# Altium schematic symbol library DANCE_LIB.SchLib: 34 symbols
Pins are listed as number, name and electrical type; pins without a type are passive.

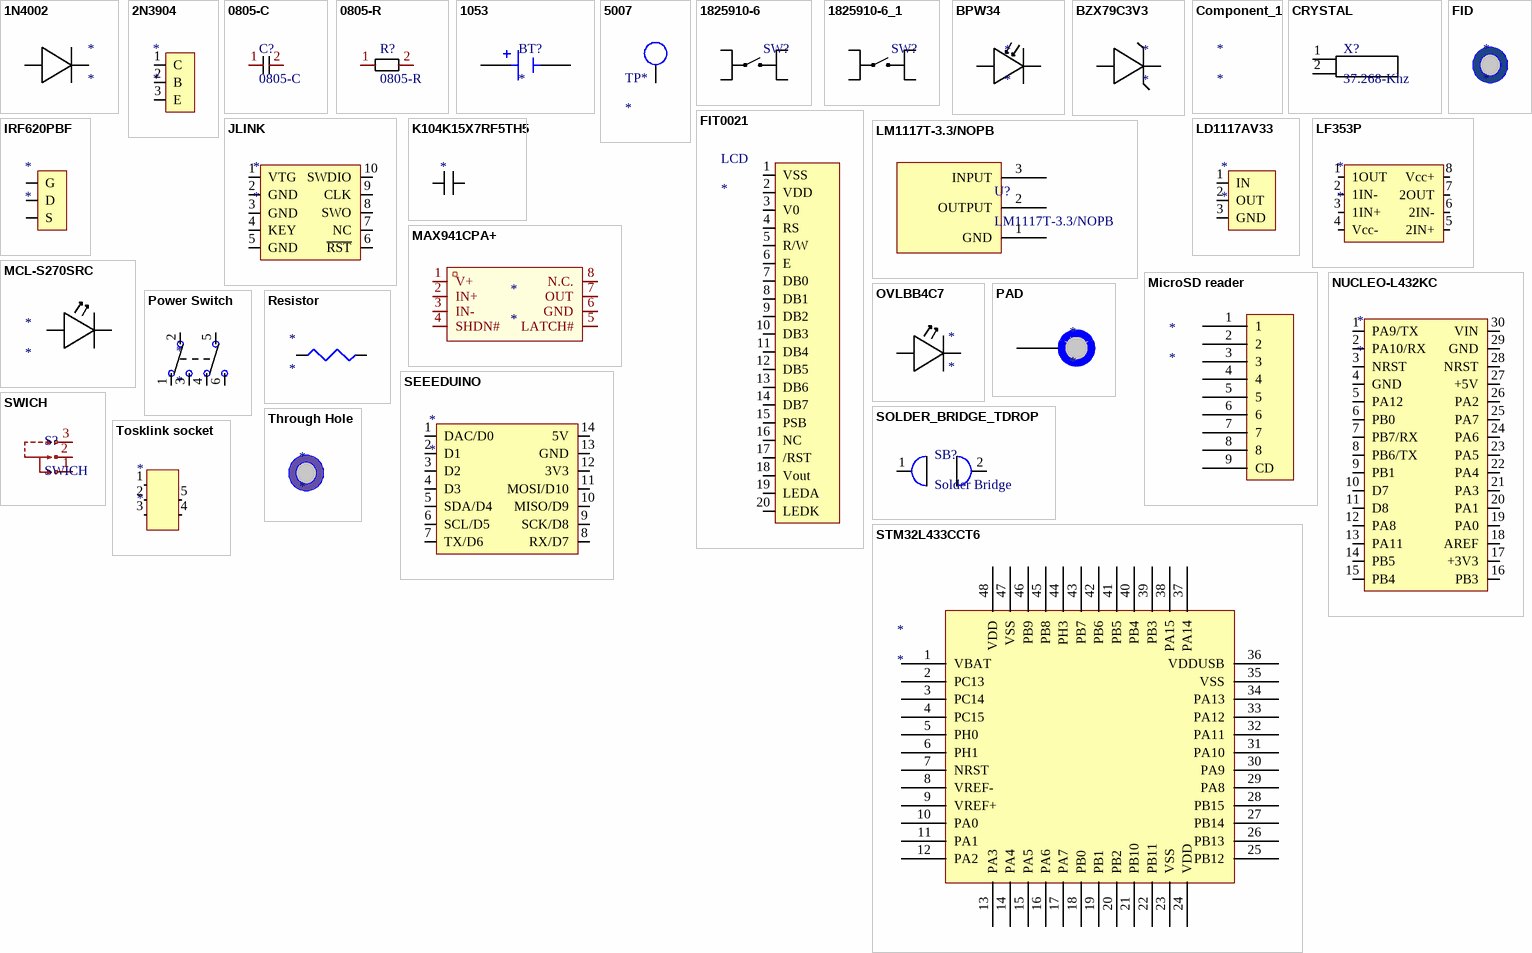
[diagram p0: symbols 1N4002 to Tosklink socket]

## 1N4002
designator *
Diode Standard Recovery Rectifier DO-41, 100V, 1.00A; Manufacturer: Diotec; Manufacturer Part Number: 1N4002; Supplier 1: Digikey; RoHS: Yes; Category: Rectifier Diodes; Stock 1: 36425; Pricing 1: 1=0.1, 10=0.073, 100=0.0492, 500=0.04344, 1000=0.03835 (USD); Mount: Through Hole; Case/Package: 100; Min Operating Temperature: -50°C; Max Operating Temperature: 175°C; Polarity: Standard; Packaging: Ammo Pack; RoHS Compliant: Yes; ComponentLink1URL: https://datasheet.ciiva.com/26325/162221-da-01-ml-1n4002-silizium-diode-de-en-26325266.pdf?src-supplier=Conrad; ComponentLink1Description: https://datasheet.ciiva.com/26325/162221-da-01-ml-1n4002-silizium-diode-de-en-26325266.pdf?src-supplier=Conrad; ComponentLink2URL: https://datasheet.ciiva.com/18711/1n400x-eng-tds-18711213.pdf?src-supplier=Distrelec; ComponentLink2Description: https://datasheet.ciiva.com/18711/1n400x-eng-tds-18711213.pdf?src-supplier=Distrelec; Supplier Part Number 1: 4878-1N4002CT-ND
footprint DIODE
pins: 1, 2

## 2N3904
designator *
Small Signal Bipolar Transistor, 0.2A I(C), 40V V(BR)CEO, 1-Element, NPN, Silicon, TO-92; Manufacturer: Diotec; Manufacturer Part Number: 2N3904; Supplier 1: Digikey; RoHS: Yes; Category: BJTs; Pricing 1: 1=0.13, 10=0.078, 100=0.0478, 500=0.03448, 1000=0.03015, 2000=0.02649 (USD); Case/Package: TO-92; Weight: 336mg; Packaging: Ammo Pack; RoHS Compliant: Yes; ComponentLink1URL: http://datasheet.octopart.com/2N3904-Diotec-datasheet-20747533.pdf?src-supplier=Onlinecomponents.com; ComponentLink1Description: http://datasheet.octopart.com/2N3904-Diotec-datasheet-20747533.pdf?src-supplier=Onlinecomponents.com; ComponentLink2URL: http://datasheet.octopart.com/2N3904-Diotec-datasheet-20747533.pdf?src-supplier=Mouser; ComponentLink2Description: http://datasheet.octopart.com/2N3904-Diotec-datasheet-20747533.pdf?src-supplier=Mouser; ComponentLink3URL: http://datasheet.octopart.com/2N3904-Diotec-datasheet-20747533.pdf?src-supplier=Distrelec; ComponentLink3Description: http://datasheet.octopart.com/2N3904-Diotec-datasheet-20747533.pdf?src-supplier=Distrelec; ComponentLink4URL: http://datasheet.octopart.com/2N3904-Diotec-datasheet-20747533.pdf?src-supplier=Verical; ComponentLink4Description: http://datasheet.octopart.com/2N3904-Diotec-datasheet-20747533.pdf?src-supplier=Verical; ComponentLink5URL: https://datasheet.octopart.com/2N3904-Diotec-datasheet-113239676.pdf?src-supplier=TME; ComponentLink5Description: https://datasheet.octopart.com/2N3904-Diotec-datasheet-113239676.pdf?src-supplier=TME; ComponentLink6URL: http://datasheet.octopart.com/2N3904-Diotec-datasheet-20747533.pdf?src-supplier=DComponents; ComponentLink6Description: http://datasheet.octopart.com/2N3904-Diotec-datasheet-20747533.pdf?src-supplier=DComponents; ComponentLink7URL: https://datasheet.octopart.com/2N3904-Diotec-datasheet-168809475.pdf?src-supplier=SOS+electronic; ComponentLink7Description: https://datasheet.octopart.com/2N3904-Diotec-datasheet-168809475.pdf?src-supplier=SOS+electronic; ComponentLink8URL: http://datasheet.octopart.com/2N3904-Diotec-datasheet-20747533.pdf?src-supplier=Electro+Sonic; ComponentLink8Description: http://datasheet.octopart.com/2N3904-Diotec-datasheet-20747533.pdf?src-supplier=Electro+Sonic; Supplier Part Number 1: 4878-2N3904CT-ND
footprint NPN TRANSITOR
pins: 1 C, 2 B, 3 E

## 0805-C
designator C?
footprint SURFM CAPACITOR
pins: 1, 2

## 0805-R
designator R?
footprint SURFM RESISTOR
pins: 1, 2

## 1053
designator BT?
Battery Holder, Auto-In/EZ-Out, THM, Coin Cell, 24mm, Plastic, UL94V-0, Black | Keystone Electronics 1053; MP: 1053; SnapEDA_Link: https://www.snapeda.com/parts/1053/Keystone/view-part/?ref=snap; Package: Package; Value: *; MF: Keystone Electronics; Check_prices: https://www.snapeda.com/parts/1053/Keystone/view-part/?ref=eda
footprint BAT_1053
pins: N NEG, P POS

## 5007
designator TP*
MS27478 - Connectors Receptacle Electrical Solder Mounting Solder Type Hermetic Seal 38999 Series II; Manufacturer: Keystone Electronics; Manufacturer Part Number: 5007; Plating: Silver; Body Material: Bronze,PBT; Insulation: Insulated; Outside Diameter: 3.18mm; Inside Diameter: 1.78mm; Hole Diameter: 1.6mm; Supplier 1: Digikey; RoHS: Yes; Category: Connectors; Stock 1: 45397; Pricing 1: 1=0.39, 10=0.293, 25=0.2624, 100=0.2223, 500=0.18446, 1000=0.1739, 2500=0.1542, 5000=0.14312 (USD); Mount: PCB,Through Hole; Contact Material: Bronze; Contact Plating: Tin,Silver; Color: White; Material: Nylon,Bronze; Insulation Material: Nylon; Package Quantity: 100; Packaging: Bulk; Series: THM; Length: 8.89mm; Height: 0.35inch; Reach SVHC Compliant: No; Lead Free: Lead Free; Flammability Rating: UL94 V-0; RoHS Compliant: Yes; ComponentLink1URL: https://datasheet.ciiva.com/2917/m60-2p60-2917638.pdf?src-supplier=Digikey; ComponentLink1Description: https://datasheet.ciiva.com/2917/m60-2p60-2917638.pdf?src-supplier=Digikey; ComponentLink2URL: https://datasheet.ciiva.com/22631/1703983-22631109.pdf?src-supplier=Element14; ComponentLink2Description: https://datasheet.ciiva.com/22631/1703983-22631109.pdf?src-supplier=Element14; ComponentLink3URL: https://datasheet.ciiva.com/16884/70182825-16884255.pdf?src-supplier=Allied+Electronics; ComponentLink3Description: https://datasheet.ciiva.com/16884/70182825-16884255.pdf?src-supplier=Allied+Electronics; Supplier Part Number 1: 36-5007-ND
footprint TEST POINT
pins: 1

## 1825910-6
designator SW?  (value not drawn)
Switch Push Button OFF (ON) SPST Round Button 0.05A 24VDC Momentary Contact PC Pins Thru-Hole; MP: 1825910-6; MF: TE Connectivity; Value: *; Package: None; Check_prices: https://www.snapeda.com/parts/1825910-6/TE+Connectivity+ALCOSWITCH+Switches/view-part/?ref=eda; SnapEDA_Link: https://www.snapeda.com/parts/1825910-6/TE+Connectivity+ALCOSWITCH+Switches/view-part/?ref=snap; Digi-Key_Part_Number: 450-1650-ND; Purchase-URL: https://pricing.snapeda.com/search/part/1825910-6/?ref=eda
footprint SW_1825910-6-4
pins: 1, 2, 3, 4

## 1825910-6_1
designator SW?  (value not drawn)
Switch Push Button OFF (ON) SPST Round Button 0.05A 24VDC Momentary Contact PC Pins Thru-Hole; MP: 1825910-6; MF: TE Connectivity; Value: *; Package: None; Check_prices: https://www.snapeda.com/parts/1825910-6/TE+Connectivity+ALCOSWITCH+Switches/view-part/?ref=eda; SnapEDA_Link: https://www.snapeda.com/parts/1825910-6/TE+Connectivity+ALCOSWITCH+Switches/view-part/?ref=snap; Digi-Key_Part_Number: 450-1650-ND; Purchase-URL: https://pricing.snapeda.com/search/part/1825910-6/?ref=eda
footprint SW_1825910-6-4
pins: 1, 2, 3, 4

## BPW34
designator *
IR + Visible Light Si Photodiode, 65 deg, Through-hole | Siliconix / Vishay BPW34; Wavelength: 900nm; Viewing Angle: 130°; Rise Time: 100ns; Reverse Breakdown Voltage: 60V; Lens Style: Clear; Max Power Dissipation: 215mW; Diode Type: PIN; Dark Current: 2nA; Supplier 1: Digikey; Manufacturer: Vishay; Manufacturer Part Number: BPW34; RoHS: Yes; Category: Photodiodes; Stock 1: 7880; Pricing 1: 1=1.23, 10=0.867, 100=0.6467, 500=0.5488, 1000=0.51676, 3000=0.47566, 6000=0.45477, 12000=0.4371 (USD); Mount: Through Hole,PCB; Case/Package: DIP; Number of Pins: 2; Contact Plating: Tin; Min Operating Temperature: -40°C; Max Operating Temperature: 100°C; Package Quantity: 3000; Packaging: Bulk; Reverse Voltage (DC): 60V; Fall Time: 100ns; Power Dissipation: 215mW; Breakdown Voltage: 60V; Max Reverse Voltage (DC): 60V; Series: -; Length: 4.5mm; Width: 4.3mm; Height: 2mm; Radiation Hardening: No; Lead Free: Lead Free; RoHS Compliant: Yes; Reach SVHC Compliant: Unknown; ComponentLink1URL: https://datasheet.ciiva.com/25620/0900766b80de9fc5-25620357.pdf?src-supplier=Rs; ComponentLink1Description: https://datasheet.ciiva.com/25620/0900766b80de9fc5-25620357.pdf?src-supplier=Rs; ComponentLink2URL: https://datasheet.ciiva.com/1248/33605-1248690.pdf?src-supplier=Element14; ComponentLink2Description: https://datasheet.ciiva.com/1248/33605-1248690.pdf?src-supplier=Element14; ComponentLink3URL: https://datasheet.ciiva.com/1249/bpw34-1249073.pdf?src-supplier=Element14; ComponentLink3Description: https://datasheet.ciiva.com/1249/bpw34-1249073.pdf?src-supplier=Element14; ComponentLink4URL: https://datasheet.ciiva.com/4269/2bpw34-4269812.pdf?src-supplier=Arrow+Electronics; ComponentLink4Description: https://datasheet.ciiva.com/4269/2bpw34-4269812.pdf?src-supplier=Arrow+Electronics; ComponentLink5URL: https://datasheet.ciiva.com/4697/bpw34-79369-4697616.pdf?src-supplier=Mouser; ComponentLink5Description: https://datasheet.ciiva.com/4697/bpw34-79369-4697616.pdf?src-supplier=Mouser; ComponentLink6URL: https://datasheet.ciiva.com/1336/6514-1336219.pdf?src-supplier=Newark; ComponentLink6Description: https://datasheet.ciiva.com/1336/6514-1336219.pdf?src-supplier=Newark; ComponentLink7URL: https://datasheet.ciiva.com/2819/bpw34-2819744.pdf?src-supplier=Digikey; ComponentLink7Description: https://datasheet.ciiva.com/2819/bpw34-2819744.pdf?src-supplier=Digikey; ComponentLink8URL: https://datasheet.ciiva.com/1248/bpw34-1248686.pdf?src-supplier=Element14; ComponentLink8Description: https://datasheet.ciiva.com/1248/bpw34-1248686.pdf?src-supplier=Element14; ComponentLink9URL: https://datasheet.ciiva.com/8084/bpw34-8084840.pdf?src-supplier=Avnet; ComponentLink9Description: https://datasheet.ciiva.com/8084/bpw34-8084840.pdf?src-supplier=Avnet; ComponentLink10URL: https://datasheet.ciiva.com/1335/1809684-1335889.pdf?src-supplier=Newark; ComponentLink10Description: https://datasheet.ciiva.com/1335/1809684-1335889.pdf?src-supplier=Newark; Supplier Part Number 1: 751-1015-ND
footprint PhotoDiode
pins: 1, 2

## BZX79C3V3
designator *
BZX79C Series 500 mW 3.3 V 100 mA Through Hole Zener Diode - DO-35; Manufacturer: ON Semiconductor / Fairchild; Manufacturer Part Number: BZX79C3V3; Zener Voltage: 3.3V; Power Dissipation: 500mW; Capacitance: 200pF; Impedance: 95R; Max Reverse Leakage Current: 25uA; Forward Voltage: 1.5V; Tolerance: 5%; Test Current: 5mA; Supplier 1: Digikey; RoHS: Yes; Category: Zener Diodes; Stock 1: 3692; Pricing 1: 1=0.12, 10=0.078, 100=0.029, 500=0.027, 1000=0.025 (USD); Mount: Through Hole; Case/Package: DO-35; Number of Pins: 2; Weight: 80g; Min Operating Temperature: -65°C; Max Operating Temperature: 200°C; Packaging: Bulk; Power Rating: 500mW; Voltage Rating (DC): 3.3V; Breakdown Voltage: 3.3V; Max Power Dissipation: 500mW; Working Voltage: 3.3V; Max Reverse Current: 25uA; Series: -; Diameter: 1.91mm; Length: 4.56mm; Reach SVHC Compliant: No; Lead Free: Lead Free; RoHS Compliant: Yes; ComponentLink1URL: https://datasheet.ciiva.com/25624/0900766b810c0800-25624624.pdf?src-supplier=Rs; ComponentLink1Description: https://datasheet.ciiva.com/25624/0900766b810c0800-25624624.pdf?src-supplier=Rs; ComponentLink2URL: https://datasheet.ciiva.com/897/bzx79c10-897269.pdf?src-supplier=Digikey; ComponentLink2Description: https://datasheet.ciiva.com/897/bzx79c10-897269.pdf?src-supplier=Digikey; ComponentLink3URL: https://datasheet.ciiva.com/8059/76520-8059737.pdf?src-supplier=Element14; ComponentLink3Description: https://datasheet.ciiva.com/8059/76520-8059737.pdf?src-supplier=Element14; ComponentLink4URL: https://datasheet.ciiva.com/8059/76520-8059740.pdf?src-supplier=Element14; ComponentLink4Description: https://datasheet.ciiva.com/8059/76520-8059740.pdf?src-supplier=Element14; ComponentLink5URL: https://datasheet.ciiva.com/8059/76520-8059742.pdf?src-supplier=Element14; ComponentLink5Description: https://datasheet.ciiva.com/8059/76520-8059742.pdf?src-supplier=Element14; Supplier Part Number 1: BZX79C3V3-ND
footprint Zener Diode
pins: 1, 2

## Component_1
designator *

## CRYSTAL
designator X?, comment 37.268-Khz
footprint CRYSTAL
pins: 1, 2

## FID
designator *
Fiducial Marks
footprint FIDUCIALS

## FIT0021
designator LCD
Disply, Lcd, 128X64, Paral/serial Arduino Comp, Blu Bk, 5V, ST7920; Manufacturer: DFRobot; Manufacturer Part Number: FIT0021; Supplier 1: Digikey; Pricing 1: 1=18 (USD); Supplier Part Number 1: 1738-FIT0021-ND
footprint LCD
pins: 1 VSS, 2 VDD, 3 V0, 4 RS, 5 R/W, 6 E, 7 DB0, 8 DB1, 9 DB2, 10 DB3, 11 DB4, 12 DB5, 13 DB6, 14 DB7, 15 PSB, 16 NC, 17 /RST, 18 Vout, 19 LEDA, 20 LEDK

## IRF620PBF
designator *
Single N-Channel 200 V 0.8 Ohms Flange Mount Power Mosfet - TO-220AB; Manufacturer: Vishay; Manufacturer Part Number: IRF620PBF; Rise Time: 22ns; Rds On Max: 800mR; Input Capacitance: 260pF; Nominal Vgs: 2V; Max Power Dissipation: 50W; Number of Elements: 1; Continuous Drain Current (ID): 5.2A; Drain to Source Voltage (Vdss): 200V; Gate to Source Voltage (Vgs): 20V; Fall Time: 13ns; Turn-Off Delay Time: 19ns; Turn-On Delay Time: 7.2ns; Recovery Time: 300ns; Voltage Rating (DC): 250V; Current: 52A; Polarization: N; Supplier 1: Digikey; RoHS: Yes; Category: MOSFETs; Stock 1: 572; Pricing 1: 1=0.96, 50=0.5584, 100=0.5426, 500=0.52688, 1000=0.49839, 2000=0.49417, 5000=0.4725, 10000=0.4625 (USD); Mount: Through Hole; Case/Package: TO-220AB; Number of Pins: 3; Weight: 0.211644oz; Min Operating Temperature: -55°C; Max Operating Temperature: 150°C; Packaging: Rail/Tube; Package Quantity: 1000; Drain to Source Resistance: 800mR; Threshold Voltage: 2V; Power Dissipation: 50W; Number of Channels: 1; Drain to Source Breakdown Voltage: 200V; Current Rating: 5.2A; Voltage: 200V; Polarity: N-CHANNEL; Drain-source On Resistance-Max: 800mR; Length: 10.41mm; Width: 4.7mm; Height: 9.01mm; Radiation Hardening: No; Lead Free: Lead Free; RoHS Compliant: Yes; Reach SVHC Compliant: Unknown; ComponentLink1URL: https://datasheet.ciiva.com/14110/ctirf620-data-en-14110686.pdf?src-supplier=Distrelec; ComponentLink1Description: https://datasheet.ciiva.com/14110/ctirf620-data-en-14110686.pdf?src-supplier=Distrelec; ComponentLink2URL: https://datasheet.ciiva.com/4439/sihf620-106584-4439552.pdf?src-supplier=Mouser; ComponentLink2Description: https://datasheet.ciiva.com/4439/sihf620-106584-4439552.pdf?src-supplier=Mouser; ComponentLink3URL: https://datasheet.ciiva.com/7643/81835-7643264.pdf?src-supplier=Element14; ComponentLink3Description: https://datasheet.ciiva.com/7643/81835-7643264.pdf?src-supplier=Element14; ComponentLink4URL: https://datasheet.ciiva.com/15137/getdatasheetpartid-84721-15137580.pdf?src-supplier=Verical; ComponentLink4Description: https://datasheet.ciiva.com/15137/getdatasheetpartid-84721-15137580.pdf?src-supplier=Verical; ComponentLink5URL: https://datasheet.ciiva.com/22671/1349027-22671625.pdf?src-supplier=Element14; ComponentLink5Description: https://datasheet.ciiva.com/22671/1349027-22671625.pdf?src-supplier=Element14; ComponentLink6URL: https://datasheet.ciiva.com/29325/162416-da-01-en-transistor-hexfet-irf620pbf-to-220-vis-29325931.pdf?src-supplier=Conrad; ComponentLink6Description: https://datasheet.ciiva.com/29325/162416-da-01-en-transistor-hexfet-irf620pbf-to-220-vis-29325931.pdf?src-supplier=Conrad; ComponentLink7URL: https://datasheet.ciiva.com/6386/sihf620-6386422.pdf?src-supplier=Digikey; ComponentLink7Description: https://datasheet.ciiva.com/6386/sihf620-6386422.pdf?src-supplier=Digikey; ComponentLink8URL: https://datasheet.ciiva.com/8114/sihf620-8114351.pdf?src-supplier=Avnet; ComponentLink8Description: https://datasheet.ciiva.com/8114/sihf620-8114351.pdf?src-supplier=Avnet; ComponentLink9URL: https://datasheet.ciiva.com/16455/sihf620-16455933.pdf?src-supplier=Future+Electronics; ComponentLink9Description: https://datasheet.ciiva.com/16455/sihf620-16455933.pdf?src-supplier=Future+Electronics; Supplier Part Number 1: IRF620PBF-ND
footprint VOLTAGE REGULATOR
pins: 1 G, 2 D, 3 S

## JLINK
designator *
Conn Shrouded Header (4 Sides) HDR 10 POS 1.27mm Solder ST Top Entry Thru-Hole; Manufacturer: CNC Tech; Manufacturer Part Number: 3220-10-0100-00; Number of Positions: 10; Current Rating: 1A; Number of Contacts: 10NUMBER; Supplier 1: Digikey; RoHS: Yes; Category: Headers and Wire Housings; Stock 1: 18235; Pricing 1: 1=0.64, 10=0.54, 100=0.4586, 500=0.40928, 3200=0.35902, 6400=0.34189, 12800=0.32558 (USD); Mount: Through Hole; Contact Material: Brass; Contact Shape: Square; Contact Finish - Mating: GOLD; Insulation Material: Nylon; Min Operating Temperature: -40°C; Max Operating Temperature: 105°C; Packaging: Tray; Number of Rows: 2; Termination: Solder; Connector Type: Header; Contact Type: Male Pin; Fastening Type: Pull; Series: -; Height: 5.6mm; RoHS Compliant: Yes; Flammability Rating: UL94 V-0; ComponentLink1URL: https://datasheet.ciiva.com/18655/3220-xx-0100-00-18655342.pdf?src-supplier=Digikey; ComponentLink1Description: https://datasheet.ciiva.com/18655/3220-xx-0100-00-18655342.pdf?src-supplier=Digikey; Supplier Part Number 1: 1175-1627-ND
footprint J-Link Connector
pins: 1 VTG, 2 GND, 3 GND, 4 KEY, 5 GND, 6 ~{RST}, 7 NC, 8 SWO, 9 CLK, 10 SWDIO

## K104K15X7RF5TH5
designator *, comment ±10%, 50V, Ceramic  (value not drawn)
Manufacturer: Vishay BCcomponents; Manufacturer Part Number: K104K15X7RF5TH5; Capacitance: 100nF; Dielectric: X7R; Lead/Base Style: Formed Leads; Lead Diameter: 0.5mm; Lead Length: 30mm; Supplier 1: Digikey; RoHS: Yes; Category: Ceramic Capacitors; Stock 1: 532809; Mount: Through Hole,PCB; Case/Package: Dipped; Dielectric Material: Ceramic; Material: 4241ConductorMaterial; Weight: 0.005644oz; Min Operating Temperature: -55°C; Max Operating Temperature: 125°C; Packaging: Tape and Reel; Tolerance: 10%; Voltage Rating (DC): 50V; Termination: Radial; Series: K; Construction: RADIAL; Package Quantity: 1; Voltage Rating: 50V; Voltage: 50V; Voltage Rating (AC): 50V; Diameter: 500um; Length: 4mm; Width: 2.5mm; Height: 4mm; Lead Pitch: 5mm; Depth: 2.5mm; Height - Seated (Max): 0.257inch; Thickness: 2.6mm; RoHS Compliant: Yes; Lead Free: Lead Free; Reach SVHC Compliant: Unknown; ComponentLink1URL: https://datasheet.ciiva.com/145/kseries-145882.pdf?src-supplier=Digikey; ComponentLink1Description: https://datasheet.ciiva.com/145/kseries-145882.pdf?src-supplier=Digikey; ComponentLink2URL: https://datasheet.ciiva.com/145/kseries-145883.pdf?src-supplier=Digikey; ComponentLink2Description: https://datasheet.ciiva.com/145/kseries-145883.pdf?src-supplier=Digikey; ComponentLink3URL: https://datasheet.ciiva.com/7974/1756139-7974780.pdf?src-supplier=Element14; ComponentLink3Description: https://datasheet.ciiva.com/7974/1756139-7974780.pdf?src-supplier=Element14; ComponentLink4URL: https://datasheet.ciiva.com/46418/1756139-46418255.pdf?src-supplier=Element14; ComponentLink4Description: https://datasheet.ciiva.com/46418/1756139-46418255.pdf?src-supplier=Element14; ComponentLink5URL: https://datasheet.ciiva.com/16449/kseries-16449099.pdf?src-supplier=Future+Electronics; ComponentLink5Description: https://datasheet.ciiva.com/16449/kseries-16449099.pdf?src-supplier=Future+Electronics; ComponentLink6URL: https://datasheet.ciiva.com/18442/70121924-18442233.pdf?src-supplier=Allied+Electronics; ComponentLink6Description: https://datasheet.ciiva.com/18442/70121924-18442233.pdf?src-supplier=Allied+Electronics; Supplier Part Number 1: BC1101CT-ND
footprint CAPACITOR
pins: 1, 2

## LD1117AV33
designator *
LD1117 Series 1 A 3.3 V Fixed Output Positive Voltage LDO Regulator - TO-220; Manufacturer: STMicroelectronics; Manufacturer Part Number: LD1117AV33; Number of Outputs: 1; Max Input Voltage: 10V; Output Voltage: 3.3V; Max Power Dissipation: 12W; Dropout Voltage: 1.15V; Output Current: 1A; Min Input Voltage: 5.3V; Max Output Current: 1.2A; Input Bias Current: 5mA; Quiescent Current: 10mA; Accuracy: 2%; Power Supply Rejection Ratio (PSRR): 75dB; Supplier 1: Mouser; RoHS: Yes; Category: Voltage Regulators - Linear; Stock 1: 1501; Pricing 1: 1=0.84, 10=0.613, 50=0.518, 100=0.448, 1000=0.365, 10000=0.332 (USD); Mount: Through Hole; Case/Package: TO; Number of Pins: 3; Min Operating Temperature: 0°C; Max Operating Temperature: 125°C; Package Quantity: 1000; Packaging: Rail/Tube; Nominal Output Voltage: 3.3V; Number of Regulators: 1; Polarity: Positive; Min Output Voltage: 3.3V; Output Type: Fixed; Series: -; Output Configuration: Positive; Length: 10.4mm; Width: 4.6mm; Height: 9.15mm; Reach SVHC Compliant: No; RoHS Compliant: Yes; ComponentLink1URL: https://datasheet.ciiva.com/16219/cd00002116-16219417.pdf?src-supplier=Future+Electronics; ComponentLink1Description: https://datasheet.ciiva.com/16219/cd00002116-16219417.pdf?src-supplier=Future+Electronics; ComponentLink2URL: https://datasheet.ciiva.com/2052/cd00002116-2052417.pdf?src-supplier=Digikey; ComponentLink2Description: https://datasheet.ciiva.com/2052/cd00002116-2052417.pdf?src-supplier=Digikey; ComponentLink3URL: https://datasheet.ciiva.com/3225/cd00002116-3225093.pdf?src-supplier=Avnet; ComponentLink3Description: https://datasheet.ciiva.com/3225/cd00002116-3225093.pdf?src-supplier=Avnet; ComponentLink4URL: https://datasheet.ciiva.com/1511/1732936-1511558.pdf?src-supplier=Element14; ComponentLink4Description: https://datasheet.ciiva.com/1511/1732936-1511558.pdf?src-supplier=Element14; Supplier Part Number 1: 511-LD1117AV33
footprint VOLTAGE REGULATOR
pins: 1 IN, 2 OUT, 3 GND

## LF353P
designator *
Amplifier; Dual Operational; + 3.5 V (min.); 3.6 ma (typ.); + 30 V; PDIP; 0 Deg; Manufacturer: Texas Instruments; Manufacturer Part Number: LF353P; Number of Channels: 2; Bandwidth: 3MHz; Dual Supply Voltage: 9V; Voltage Gain: 100dB; Common Mode Rejection Ratio: 70dB; Slew Rate: 13V/µs; Max Dual Supply Voltage: 18V; Min Dual Supply Voltage: 3.5V; Max Power Dissipation: 500mW; Input Offset Voltage (Vos): 10mV; Input Bias Current: 200pA; Operating Supply Current: 3.6mA; Max Supply Current: 6.5mA; Supplier 1: Digikey; RoHS: Yes; Category: Amplifiers - Op Amps, Buffer, Instrumentation; Stock 1: 3112; Pricing 1: 1=0.65, 10=0.463, 50=0.3866, 100=0.3628, 250=0.3378, 500=0.32272, 1000=0.31029, 2500=0.29718, 5000=0.28927 (USD); Mount: Through Hole; Case/Package: PDIP; Number of Pins: 8; Min Operating Temperature: 0°C; Max Operating Temperature: 70°C; Packaging: Rail/Tube; Gain Bandwidth Product: 3MHz; Number of Circuits: 2; Package Quantity: 50; Unity Gain Bandwidth Product: 3MHz; Operating Supply Voltage: 18V; Number of Elements: 2; Power Dissipation: 500mW; Number of Amplifiers: 2; Series: -; Supply Current: 6.5mA; Technology: BIFET; Length: 9.81mm; Width: 6.35mm; Height: 4.57mm; Reach SVHC Compliant: No; Lead Free: Lead Free; RoHS Compliant: Yes; ComponentLink1URL: https://datasheet.ciiva.com/2973/slos012b-2973220.pdf?src-supplier=Avnet; ComponentLink1Description: https://datasheet.ciiva.com/2973/slos012b-2973220.pdf?src-supplier=Avnet; ComponentLink2URL: https://datasheet.ciiva.com/1487/1831470-1487782.pdf?src-supplier=Element14; ComponentLink2Description: https://datasheet.ciiva.com/1487/1831470-1487782.pdf?src-supplier=Element14; Supplier Part Number 1: 296-7139-5-ND
footprint Op-Amp 8 pins
pins: 1 1OUT, 2 1IN-, 3 1IN+, 4 Vcc-, 5 2IN+, 6 2IN-, 7 2OUT, 8 Vcc+

## LM1117T-3.3/NOPB
designator U?
800-mA 15-V linear voltage regulator ; 3-TO-220 0 to 125; Manufacturer: TI National Semiconductor; Number of Channels: 1NUMBER; Supplier 1: Digikey; Manufacturer Part Number: LM1117T-3.3/NOPB; RoHS: Yes; Category: Voltage Regulators - Linear; Stock 1: 4752; Pricing 1: 1=1.69, 10=1.515, 45=1.42911, 135=1.21763, 270=1.14333, 540=1.00041, 1035=0.82891, 2520=0.77174, 5040=0.74316 (USD); Thickness: 4.572mm; ComponentLink1URL: https://datasheet.ciiva.com/15111/getdatasheetpartid-67377-15111321.pdf?src-supplier=Verical; ComponentLink1Description: https://datasheet.ciiva.com/15111/getdatasheetpartid-67377-15111321.pdf?src-supplier=Verical; ComponentLink2URL: https://datasheet.ciiva.com/19480/242115-19480555.pdf?src-supplier=Jameco; ComponentLink2Description: https://datasheet.ciiva.com/19480/242115-19480555.pdf?src-supplier=Jameco; ComponentLink3URL: https://datasheet.ciiva.com/41457/001013630-da-01-en-ic-reg-ldo-lm1117t-3-3-nopb-to-220-3-tid-41457409.pdf?src-supplier=Conrad; ComponentLink3Description: https://datasheet.ciiva.com/41457/001013630-da-01-en-ic-reg-ldo-lm1117t-3-3-nopb-to-220-3-tid-41457409.pdf?src-supplier=Conrad; ComponentLink4URL: https://datasheet.ciiva.com/14150/ialm1117t-e-14150010.pdf?src-supplier=Distrelec; ComponentLink4Description: https://datasheet.ciiva.com/14150/ialm1117t-e-14150010.pdf?src-supplier=Distrelec; ComponentLink5URL: https://datasheet.ciiva.com/2047/lm1117-n-2047767.pdf?src-supplier=Digikey; ComponentLink5Description: https://datasheet.ciiva.com/2047/lm1117-n-2047767.pdf?src-supplier=Digikey; ComponentLink6URL: https://datasheet.ciiva.com/1511/1882372-1511717.pdf?src-supplier=Element14; ComponentLink6Description: https://datasheet.ciiva.com/1511/1882372-1511717.pdf?src-supplier=Element14; Supplier Part Number 1: LM1117T-3.3/NOPB-ND
footprint VOLTAGE REGULATOR
pins: 1 GND, 2 OUTPUT, 3 INPUT

## MAX941CPA+
designator *
footprint MAX1
pins: 1 V+, 2 IN+, 3 IN-, 4 SHDN#, 5 LATCH#, 6 GND, 7 OUT, 8 N.C.

## MCL-S270SRC
designator *
Led, SMD, 0805, Super-red; Manufacturer: Multicomp; Manufacturer Part Number: MCL-S270SRC; Forward Voltage: 1.85V; Luminous Intensity: 17mcd; Wavelength: 643nm; Viewing Angle: 140°; Current Rating: 20mA; Lens Style: Rectangular; Max Power Dissipation: 100mW; Supplier 1: Farnell; RoHS: Yes; Category: LEDs; Pricing 1: 5=0.101, 10=0.0866, 100=0.0673, 500=0.0551, 1000=0.0505 (GBP); Mount: Surface Mount; Case/Package: 0805; Number of Pins: 2; Color: Red; Min Operating Temperature: -40°C; Max Operating Temperature: 85°C; Packaging: Cut Tape; Forward Current: 20mA; Dominant Wavelength: 643nm; Power Dissipation: 100mW; Reach SVHC Compliant: No; ComponentLink1URL: https://datasheet.ciiva.com/23621/53023-23621319.pdf?src-supplier=Newark; ComponentLink1Description: https://datasheet.ciiva.com/23621/53023-23621319.pdf?src-supplier=Newark; ComponentLink2URL: https://datasheet.ciiva.com/8028/1671534-8028336.pdf?src-supplier=Element14; ComponentLink2Description: https://datasheet.ciiva.com/8028/1671534-8028336.pdf?src-supplier=Element14; Supplier Part Number 1: 1581239
footprint LED SURFACE MOUNT
pins: 1 2, 2 1

## MicroSD reader
designator *
footprint SD CARD
pins: 1, 2, 3, 4, 5, 6, 7, 8, 9 CD

## NUCLEO-L432KC
designator *
STM32 Nucleo-32 development board with STM32L432KC MCU, supports Arduino connectivity; Manufacturer: STMicroelectronics; Manufacturer Part Number: NUCLEO-L432KC; Evaluation Kit: Yes; Number of Bits: 32; Core Architecture: ARM; Supplier 1: Digikey; RoHS: Yes; Category: Embedded Processors and Controllers; Stock 1: 15; Pricing 1: 1=11.04 (USD); Series: STM32L4; Reach SVHC Compliant: No; Lead Free: Lead Free; ComponentLink1URL: http://www.farnell.com/datasheets/2064195.pdf?src-supplier=Farnell; ComponentLink1Description: http://www.farnell.com/datasheets/2064195.pdf?src-supplier=Farnell; ComponentLink2URL: http://www.st.com/content/ccc/resource/technical/document/data_brief/b1/d8/13/d4/b0/b7/4b/6e/DM00214578.pdf/files/DM00214578.pdf/jcr:content/translations/en.DM00214578.pdf?src-supplier=Digikey; ComponentLink2Description: http://www.st.com/content/ccc/resource/technical/document/data_brief/b1/d8/13/d4/b0/b7/4b/6e/DM00214578.pdf/files/DM00214578.pdf/jcr:content/translations/en.DM00214578.pdf?src-supplier=Digikey; ComponentLink3URL: https://datasheet.octopart.com/NUCLEO-L432KC-STMicroelectronics-datasheet-145015089.pdf?src-supplier=Future+Electronics; ComponentLink3Description: https://datasheet.octopart.com/NUCLEO-L432KC-STMicroelectronics-datasheet-145015089.pdf?src-supplier=Future+Electronics; ComponentLink4URL: https://datasheet.octopart.com/NUCLEO-L432KC-STMicroelectronics-datasheet-62334095.pdf?src-supplier=Element14; ComponentLink4Description: https://datasheet.octopart.com/NUCLEO-L432KC-STMicroelectronics-datasheet-62334095.pdf?src-supplier=Element14; ComponentLink5URL: http://www.farnell.com/datasheets/2064195.pdf?src-supplier=Element14; ComponentLink5Description: http://www.farnell.com/datasheets/2064195.pdf?src-supplier=Element14; Supplier Part Number 1: 497-16592-ND
footprint NUCLEO STM32
pins: 1 PA9/TX, 2 PA10/RX, 3 NRST, 4 GND, 5 PA12, 6 PB0, 7 PB7/RX, 8 PB6/TX, 9 PB1, 10 D7, 11 D8, 12 PA8, 13 PA11, 14 PB5, 15 PB4, 16 PB3, 17 +3V3, 18 AREF, 19 PA0, 20 PA1, 21 PA3, 22 PA4, 23 PA5, 24 PA6, 25 PA7, 26 PA2, 27 +5V, 28 NRST, 29 GND, 30 VIN

## OVLBB4C7
designator *
Round through-hole LED lamp (3 mm), Color Blue, Vf 3.2 V, Radial-2, RoHS; Manufacturer: TT Optek; Manufacturer Part Number: OVLBB4C7; Lens Color: Colorless; Luminous Intensity: 900mcd; Viewing Angle: 45°; Forward Voltage: 3.2V; Lens Style: Dome,Round,Clear; Wavelength: 470nm; Forward Current: 20mA; Lens Transparency: Clear; Number of Elements: 1; Power Dissipation: 100W; Reverse Voltage: 5V; Lead Length: 23.9mm; Supplier 1: Digikey; RoHS: Yes; Category: LEDs; Stock 1: 79008; Pricing 1: 1=0.42, 100=0.37, 250=0.36, 500=0.35, 1000=0.33, 2500=0.32, 5000=0.3125 (USD); Mount: Through Hole; Case/Package: Radial; Number of Pins: 2; Color: Blue; Min Operating Temperature: -40°C; Max Operating Temperature: 100°C; Packaging: Bulk; Package Quantity: 500; Illumination Color: Blue; Dominant Wavelength: 470nm; Test Current: 20mA; Series: -; Length: 3mm; Height: 5.35mm; Depth: 3mm; Radiation Hardening: No; Reach SVHC Compliant: No; Lead Free: Lead Free; RoHS Compliant: Yes; ComponentLink1URL: https://datasheet.ciiva.com/2113/ovlbb4c7-2113449.pdf?src-supplier=Digikey; ComponentLink1Description: https://datasheet.ciiva.com/2113/ovlbb4c7-2113449.pdf?src-supplier=Digikey; ComponentLink2URL: https://datasheet.ciiva.com/4692/ovlby4c7-209007-4692091.pdf?src-supplier=Mouser; ComponentLink2Description: https://datasheet.ciiva.com/4692/ovlby4c7-209007-4692091.pdf?src-supplier=Mouser; ComponentLink3URL: https://datasheet.ciiva.com/7647/9202-7647361.pdf?src-supplier=Element14; ComponentLink3Description: https://datasheet.ciiva.com/7647/9202-7647361.pdf?src-supplier=Element14; ComponentLink4URL: https://datasheet.ciiva.com/8028/ovlbb4c7-8028683.pdf?src-supplier=Element14; ComponentLink4Description: https://datasheet.ciiva.com/8028/ovlbb4c7-8028683.pdf?src-supplier=Element14; ComponentLink5URL: https://datasheet.ciiva.com/7043/1658077-7043303.pdf?src-supplier=Newark; ComponentLink5Description: https://datasheet.ciiva.com/7043/1658077-7043303.pdf?src-supplier=Newark; Supplier Part Number 1: 365-1173-ND
footprint LED
pins: 1, 2

## PAD
designator *
footprint PAD
pins: 1

## Power Switch
designator *
footprint Power Switch
pins: 1 9, 2 7, 3 10, 4 11, 5 8, 6 12

## Resistor
designator *
Fixed Resistor, Thin Film, 0.6W, 10000ohm, 350V, 1% +/-Tol, 50ppm/Cel, Through Hole Mount; Manufacturer: Vishay BCcomponents; Manufacturer Part Number: MRS25000C1002FRP00; Resistance: 10kR; Temperature Coefficient: 50ppm/°C; Power Rating: 600mW; Lead Diameter: 0.6mm; Supplier 1: Digikey; RoHS: Yes; Category: Through-Hole Resistors; Stock 1: 11724; Case/Package: Axial; Number of Pins: 2; Contact Plating: Tin; Min Operating Temperature: -55°C; Max Operating Temperature: 155°C; Tolerance: 1%; Resistor Type: Metal Film; Packaging: Cut Tape; Termination: Axial; Voltage Rating: 350V; Package Quantity: 1; Number of Terminations: 2; Max Power Dissipation: 600mW; Voltage Rating (DC): 350V; Series: MRS25; Resistance Tolerance: 1%; Technology: METAL FILM; Diameter: 2.5mm; Length: 6.5mm; Width: 2.5mm; Radiation Hardening: No; Lead Free: Lead Free; RoHS Compliant: Yes; Reach SVHC Compliant: Unknown; ComponentLink1URL: https://datasheet.ciiva.com/8399/mrs16m25-8399786.pdf?src-supplier=Avnet; ComponentLink1Description: https://datasheet.ciiva.com/8399/mrs16m25-8399786.pdf?src-supplier=Avnet; ComponentLink2URL: https://datasheet.ciiva.com/3258/mrs16m25-3258505.pdf?src-supplier=Avnet; ComponentLink2Description: https://datasheet.ciiva.com/3258/mrs16m25-3258505.pdf?src-supplier=Avnet; ComponentLink3URL: https://datasheet.ciiva.com/48465/mrs16m25-48465878.pdf?src-supplier=Avnet; ComponentLink3Description: https://datasheet.ciiva.com/48465/mrs16m25-48465878.pdf?src-supplier=Avnet; ComponentLink4URL: https://datasheet.ciiva.com/7836/mrs16m25-7836236.pdf?src-supplier=Element14; ComponentLink4Description: https://datasheet.ciiva.com/7836/mrs16m25-7836236.pdf?src-supplier=Element14; ComponentLink5URL: https://datasheet.ciiva.com/2710/mrs16m25-2710776.pdf?src-supplier=Digikey; ComponentLink5Description: https://datasheet.ciiva.com/2710/mrs16m25-2710776.pdf?src-supplier=Digikey; ComponentLink6URL: https://datasheet.ciiva.com/2710/mrs16m25-2710777.pdf?src-supplier=Digikey; ComponentLink6Description: https://datasheet.ciiva.com/2710/mrs16m25-2710777.pdf?src-supplier=Digikey; Supplier Part Number 1: PPC10.0KZCT-ND
footprint RESISTOR SM
pins: 1, 2

## SEEEDUINO
designator *
SAMD21 Microcontroller Development Board 0.0327MHz/48MHzCPU 32KB RAM 256KB Flash; Manufacturer: Seeed Studio; Manufacturer Part Number: 102010328; Evaluation Kit: Yes; Core Architecture: ARM; Supplier 1: Digikey; RoHS: No; Category: DSPs - Digital Signal Processors; Stock 1: 2211; Pricing 1: 1=5.4 (USD); Series: SAM D; ComponentLink1URL: https://media.digikey.com/pdf/Data%20Sheets/Seeed%20Technology/102010328_Web.pdf?src-supplier=Digikey; ComponentLink1Description: https://media.digikey.com/pdf/Data%20Sheets/Seeed%20Technology/102010328_Web.pdf?src-supplier=Digikey; Supplier Part Number 1: 1597-102010328-ND
footprint XIAO
pins: 1 DAC/D0, 2 D1, 3 D2, 4 D3, 5 SDA/D4, 6 SCL/D5, 7 TX/D6, 8 RX/D7, 9 SCK/D8, 10 MISO/D9, 11 MOSI/D10, 12 3V3, 13 GND, 14 5V

## SOLDER_BRIDGE_TDROP
designator SB?, comment Solder Bridge
Tension Fill Solder Bridge
footprint Solder Bridge OPEN
footprint SOLDER BRIDGE OPEN SMALL
pins: 1, 2

## STM32L433CCT6
designator *
MCU 32-bit Ultra Low Power STM32L ARM Cortex-M4 RISC 256kB Flash 48-Pin LQFP ECOPACK2 Tray; Manufacturer: STMicroelectronics; Manufacturer Part Number: STM32L433CCT6; Interface: I2C,SPI,USB,IrDA,MMC,SD,UART,USART; Peripherals: Brown-out Detect/Reset,PWM,WDT,DMA,LCD; Number of I/Os: 38; Oscillator Type: Internal; Data Bus Width: 32b; Max Supply Voltage: 3.6V; Min Supply Voltage: 1.55V; Nominal Supply Current: 10nA; Number of A/D Converters: 1NUMBER; Number of ADC Channels: 10NUMBER; Number of D/A Converters: 2NUMBER; Number of I2C Channels: 3NUMBER; Number of PWM Channels: 14NUMBER; Number of UART Channels: 4NUMBER; RAM Size: 64KB; Supplier 1: Digikey; RoHS: No; Category: Microcontrollers; Stock 1: 11512; Pricing 1: 1=4.14, 10=3.155, 25=2.91, 100=2.6563 (USD); Case/Package: LQFP; Min Operating Temperature: -40°C; Max Operating Temperature: 85°C; Memory Type: FLASH; Packaging: Tray; Core Architecture: ARM; Memory Size: 256KB; Series: STM32L4; Density: 256KB; Number of SPI Channels: 3NUMBER; Number of Timers/Counters: 1NUMBER; Number of USB Channels: 1NUMBER; Height: 1.6mm; RoHS Compliant: Yes; ComponentLink1URL: http://www.farnell.com/datasheets/2283392.pdf?src-supplier=Farnell; ComponentLink1Description: http://www.farnell.com/datasheets/2283392.pdf?src-supplier=Farnell; ComponentLink2URL: http://www.st.com/content/ccc/resource/technical/document/datasheet/f7/a0/fc/27/24/4e/4f/3f/DM00257192.pdf/files/DM00257192.pdf/jcr:content/translations/en.DM00257192.pdf?src-supplier=Digikey; ComponentLink2Description: http://www.st.com/content/ccc/resource/technical/document/datasheet/f7/a0/fc/27/24/4e/4f/3f/DM00257192.pdf/files/DM00257192.pdf/jcr:content/translations/en.DM00257192.pdf?src-supplier=Digikey; ComponentLink3URL: http://www.farnell.com/datasheets/2283392.pdf?src-supplier=Element14; ComponentLink3Description: http://www.farnell.com/datasheets/2283392.pdf?src-supplier=Element14; ComponentLink4URL: https://datasheet.octopart.com/STM32L433CCT6-STMicroelectronics-datasheet-62336854.pdf?src-supplier=Future+Electronics; ComponentLink4Description: https://datasheet.octopart.com/STM32L433CCT6-STMicroelectronics-datasheet-62336854.pdf?src-supplier=Future+Electronics; ComponentLink5URL: http://www.farnell.com/datasheets/2283392.pdf?src-supplier=Newark; ComponentLink5Description: http://www.farnell.com/datasheets/2283392.pdf?src-supplier=Newark; ComponentLink6URL: https://datasheet.octopart.com/STM32L433CCT6-STMicroelectronics-datasheet-82526589.pdf?src-supplier=SHENGYU+ELECTRONICS; ComponentLink6Description: https://datasheet.octopart.com/STM32L433CCT6-STMicroelectronics-datasheet-82526589.pdf?src-supplier=SHENGYU+ELECTRONICS; Supplier Part Number 1: 497-16579-ND
footprint QFP50P900X900X160-48N
pins: 1 VBAT, 2 PC13, 3 PC14, 4 PC15, 5 PH0, 6 PH1, 7 NRST, 8 VREF-, 9 VREF+, 10 PA0, 11 PA1, 12 PA2, 13 PA3, 14 PA4, 15 PA5, 16 PA6, 17 PA7, 18 PB0, 19 PB1, 20 PB2, 21 PB10, 22 PB11, 23 VSS, 24 VDD, 25 PB12, 26 PB13, 27 PB14, 28 PB15, 29 PA8, 30 PA9, 31 PA10, 32 PA11, 33 PA12, 34 PA13, 35 VSS, 36 VDDUSB, 37 PA14, 38 PA15, 39 PB3, 40 PB4, 41 PB5, 42 PB6, 43 PB7, 44 PH3, 45 PB8, 46 PB9, 47 VSS, 48 VDD

## SWICH
designator S?
footprint SWICH
pins: 1, 2, 3

## Through Hole
designator *
Fiducial Marks
footprint THROUGH HOLE

## Tosklink socket
designator *
footprint TOSLINKSOCKET
pins: 1, 2, 3, 4, 5